# EAGLE library part CAT24C256 (library ds_ic_memory)
The CAT24C256 is a EEPROM Serial 256−Kb I2C, internally organized as 32,768 words of 8 bits each. It features a 64−byte page write buffer and supports the Standard (100 kHz), Fast (400 kHz) and Fast−Plus (1 MHz) I2C protocol. Write operations can be inhibited by taking the WP pin High (this protects the entire memory). External address pins make it possible to address up to eight CAT24C256 devices on the same bus. On−Chip ECC (Error Correction Code) makes the device suitable for high reliability applications.
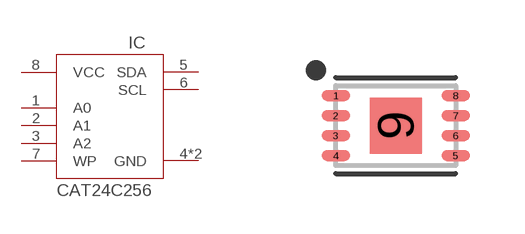
[diagram p5: symbol with the pads of SON50P300X200X50-9T130X140N; footprint SON50P300X200X50-9T130X140N]

Designator prefix IC

## CAT24C256-HU4 (DATASHEET: https://www.onsemi.com/download/data-sheet/pdf/cat24c256-d.pdf; DESCRIPTION: 256Kbit I2C UDFN-8(2x3) EEPROM ROHS; HQ_PART: IC0066897; LCSC_PART: C233771; MANUFACTURER: ON; MPN: CAT24C256HU4IGT3; ROHS: YES; VALUE: CAT24C256HU4IGT3)  [SON50P300X200X50-9T130X140N]
1  A0
2  A1
3  A2
4  GND  pwr
5  SDA
6  SCL
7  WP
8  VCC  pwr
9  GND  pwr

## Footprint SON50P300X200X50-9T130X140N (pad centres in mm)
8-SON (DFN), 0.50 mm pitch, 2.00 X 3.00 X 0.50 mm body, 1.40 X 1.30 mm thermal pad 8-pin SON (DFN) package with 0.50 mm pitch with body size 2.00 X 3.00 X 0.50 mm and thermal pad size 1.40 X 1.30 mm
smd 0.711 x 0.27: 1 -1.501,0.75; 2 -1.501,0.25; 3 -1.501,-0.25; 4 -1.501,-0.75; 5 1.501,-0.75; 6 1.501,-0.25; 7 1.501,0.25; 8 1.501,0.75
smd 1.3 x 1.4: 9 0,0